# EAGLE library part PIC18F44J11-I/PT (library BlueCom_Lib)
High-Performance Microcontrollers
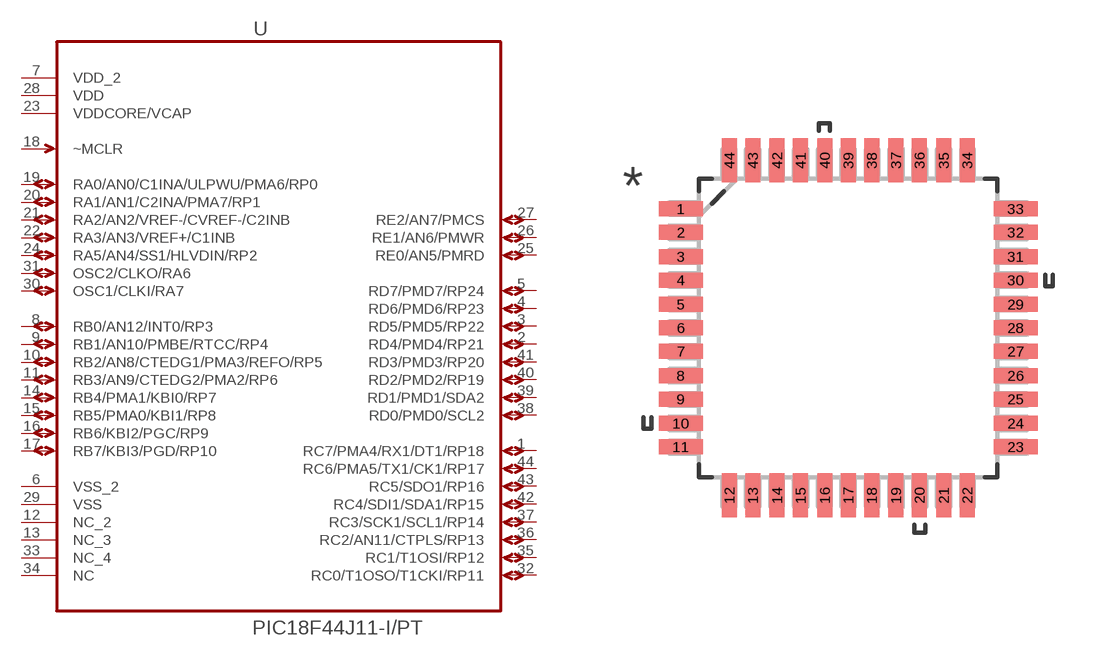
[diagram p0: symbol with the pads of QFP80P1200X1200X120-44N; footprint QFP80P1200X1200X120-44N]

Designator prefix U

## PIC18F44J11-I/PT (DESCRIPTION: 8BIT MCU; MPN: pic18f44j11-I/pt; OC_FARNELL: 1702900; OC_NEWARK: 98M1811; PACKAGE: TQFP-44; SUPPLIER: Microchip)  [QFP80P1200X1200X120-44N]
1  RC7/PMA4/RX1/DT1/RP18
2  RD4/PMD4/RP21
3  RD5/PMD5/RP22
4  RD6/PMD6/RP23
5  RD7/PMD7/RP24
6  VSS_2  pwr
7  VDD_2  pwr
8  RB0/AN12/INT0/RP3
9  RB1/AN10/PMBE/RTCC/RP4
10  RB2/AN8/CTEDG1/PMA3/REFO/RP5
11  RB3/AN9/CTEDG2/PMA2/RP6
12  NC_2  nc
13  NC_3  nc
14  RB4/PMA1/KBI0/RP7
15  RB5/PMA0/KBI1/RP8
16  RB6/KBI2/PGC/RP9
17  RB7/KBI3/PGD/RP10
18  ~MCLR  in
19  RA0/AN0/C1INA/ULPWU/PMA6/RP0
20  RA1/AN1/C2INA/PMA7/RP1
21  RA2/AN2/VREF-/CVREF-/C2INB
22  RA3/AN3/VREF+/C1INB
23  VDDCORE/VCAP
24  RA5/AN4/SS1/HLVDIN/RP2
25  RE0/AN5/PMRD
26  RE1/AN6/PMWR
27  RE2/AN7/PMCS
28  VDD  pwr
29  VSS  pwr
30  OSC1/CLKI/RA7
31  OSC2/CLKO/RA6
32  RC0/T1OSO/T1CKI/RP11
33  NC_4  nc
34  NC  nc
35  RC1/T1OSI/RP12
36  RC2/AN11/CTPLS/RP13
37  RC3/SCK1/SCL1/RP14
38  RD0/PMD0/SCL2
39  RD1/PMD1/SDA2
40  RD2/PMD2/RP19
41  RD3/PMD3/RP20
42  RC4/SDI1/SDA1/RP15
43  RC5/SDO1/RP16
44  RC6/PMA5/TX1/CK1/RP17

## Footprint QFP80P1200X1200X120-44N (pad centres in mm)
smd 1.473 x 0.508: 1 -5.613,3.988; 2 -5.613,3.2; 3 -5.613,2.388; 4 -5.613,1.6; 5 -5.613,0.787; 6 -5.613,0; 7 -5.613,-0.787; 8 -5.613,-1.6; 9 -5.613,-2.388; 10 -5.613,-3.2; 11 -5.613,-3.988; 23 5.613,-3.988; 24 5.613,-3.2; 25 5.613,-2.388; 26 5.613,-1.6; 27 5.613,-0.787; 28 5.613,0; 29 5.613,0.787; 30 5.613,1.6; 31 5.613,2.388; 32 5.613,3.2; 33 5.613,3.988
smd 0.508 x 1.473: 12 -3.988,-5.613; 13 -3.2,-5.613; 14 -2.388,-5.613; 15 -1.6,-5.613; 16 -0.787,-5.613; 17 0,-5.613; 18 0.787,-5.613; 19 1.6,-5.613; 20 2.388,-5.613; 21 3.2,-5.613; 22 3.988,-5.613; 34 3.988,5.613; 35 3.2,5.613; 36 2.388,5.613; 37 1.6,5.613; 38 0.787,5.613; 39 0,5.613; 40 -0.787,5.613; 41 -1.6,5.613; 42 -2.388,5.613; 43 -3.2,5.613; 44 -3.988,5.613